# Altium footprint library IND_1210.PcbLib: 1 footprints
Each footprint in its own frame and in the unit in brackets; x right, y up, seen from the top. Pads: shape width x height; smd on the part's side, far side on the other; paste and mask are expansions set on the pad; w line width, h text height; cw(c..) or ccw(c..) is an arc to the next point about the centre after c.
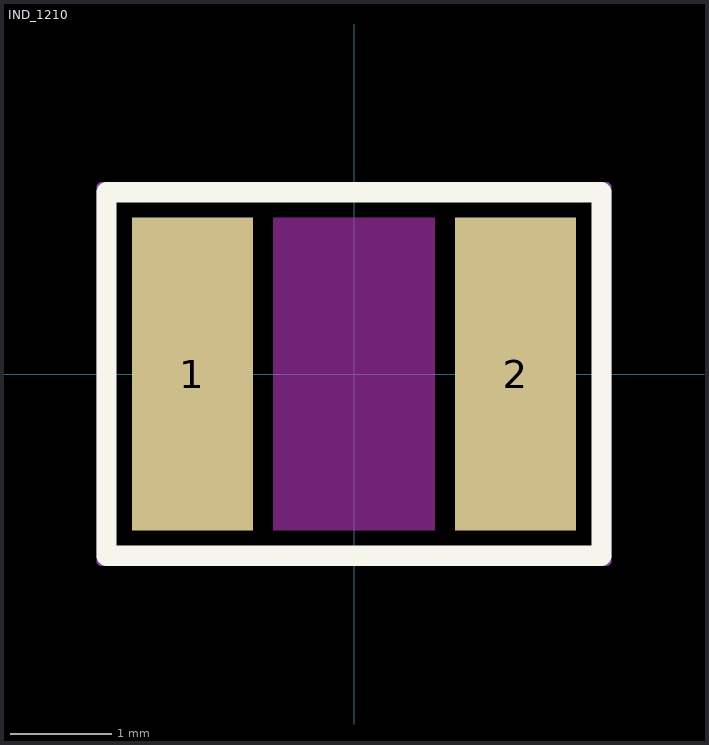
[diagram p0: the footprint, top view; thin cyan lines are the x and y axes]

## IND_1210 [mm]
pads (2):
  rect 1.2x3.1 smd: 1(-1.6,0) 2(1.6,0)
Top Layer keep-out:
  rectangle: -0.8,-1.55 0.8,1.55
Top Overlay:
  lines w0.2: -2.45,-1.8 2.45,-1.8 2.45,1.8 -2.45,1.8 -2.45,-1.8
Top Courtyard:
  lines w0.1: -2.5,-1.85 -2.5,1.85 2.5,1.85 2.5,-1.85 -2.5,-1.85
3D body "1277AS-H-1R5M=P2--3DModel-STEP-46669.STEP": height 1.2, standoff 0, extent -1.6,-1.25 1.6,1.25